# Altium footprint library CC254xPM.PcbLib: 1 footprints
Each footprint in its own frame and in the unit in brackets; x right, y up, seen from the top. Pads: shape width x height; smd on the part's side, far side on the other; paste and mask are expansions set on the pad; w line width, h text height; cw(c..) or ccw(c..) is an arc to the next point about the centre after c.
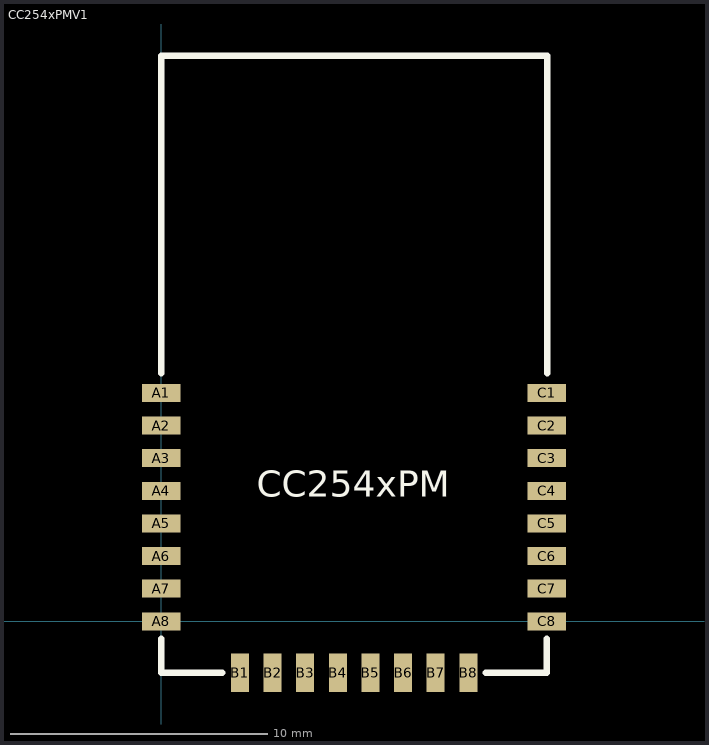
[diagram p0: the footprint, top view; thin cyan lines are the x and y axes]

## CC254xPMV1 [mm]
height 1
pads (24):
  rect 1.5x0.7 smd: A1(0,8.89) A2(0,7.62) A3(0,6.35) A4(0,5.08) A5(0,3.81) A6(0,2.54) A7(0,1.27) A8(0,0) C1(14.986,8.89) C2(14.986,7.62) C3(14.986,6.35) C4(14.986,5.08) C5(14.986,3.81) C6(14.986,2.54) C7(14.986,1.27) C8(14.986,0)
  rect 0.7x1.5 smd: B1(3.052,-2.007) B2(4.322,-2.007) B3(5.592,-2.007) B4(6.862,-2.007) B5(8.132,-2.007) B6(9.402,-2.007) B7(10.672,-2.007) B8(11.942,-2.007)
Top Overlay:
  lines w0.25: 0,22.007 15.016,22.007 15.016,10.998
  lines w0.254: 0,-0.686 0,-2.007 2.362,-2.007 ; 0,9.652 0,22.007 ; 12.624,-2.007 14.986,-2.007 14.986,-0.686 ; 15.016,9.652 15.016,10.998
  text "CC254xPM" at 3.708,4.851 h1.02